# EAGLE library part SO-14 (library _mtvl_ic)
Dummy IC
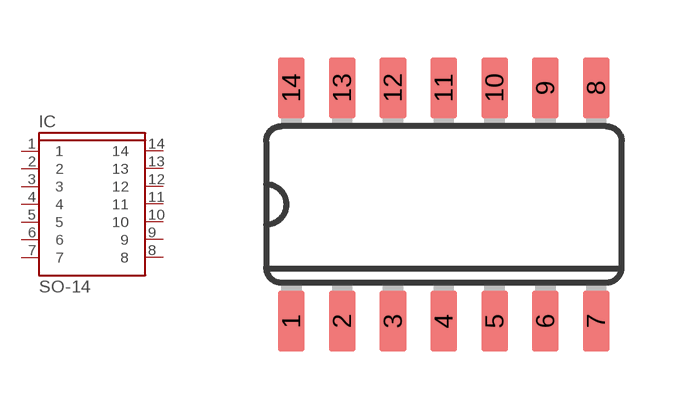
[diagram p63: symbol with the pads of SO14; footprint SO14]

Designator prefix IC

## SO-14  [SO14]
1  1
2  2
3  3
4  4
5  5
6  6
7  7
8  8
9  9
10  10
11  11
12  12
13  13
14  14

## Footprint SO14 (pad centres in mm)
Small Outline package 150 mil
smd 0.66 x 1.524: 1 -3.81,-2.921; 2 -2.54,-2.921; 3 -1.27,-2.921; 4 0,-2.921; 5 1.27,-2.921; 6 2.54,-2.921; 7 3.81,-2.921; 8 3.81,2.921; 9 2.54,2.921; 10 1.27,2.921; 11 0,2.921; 12 -1.27,2.921; 13 -2.54,2.921; 14 -3.81,2.921